# Altium footprint library Thumbstick.PcbLib: 1 footprints
Each footprint in its own frame and in the unit in brackets; x right, y up, seen from the top. Pads: shape width x height; smd on the part's side, far side on the other; paste and mask are expansions set on the pad; w line width, h text height; cw(c..) or ccw(c..) is an arc to the next point about the centre after c.
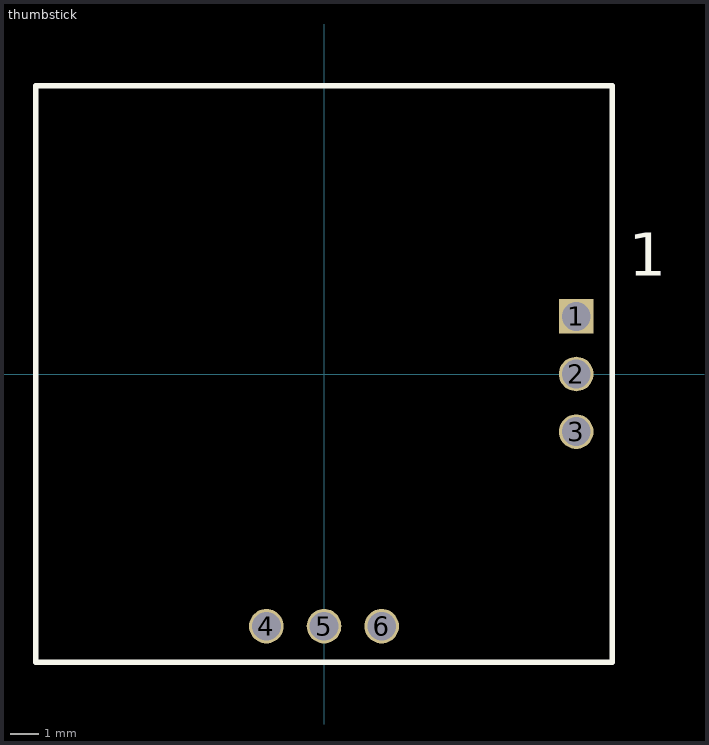
[diagram p0: the footprint, top view; thin cyan lines are the x and y axes]

## thumbstick [mm]
pads (6):
  rect 1.2x1.2 hole 1: 1(8.75,2)
  round 1.2 hole 1: 2(8.75,0) 3(8.75,-2) 4(-2,-8.75) 5(0,-8.75) 6(2,-8.75)
Top Overlay:
  lines w0.2: -10,-10 10,-10 10,10 -10,10 -10,-10
  text "1" at 10.579,3.404 h1.5
3D body "Potentiometers_Adafruit_2765_Mini_2-Axis_Analog_Thumbstick.STEP": height 12, standoff -3.1, extent -8.85,-8.975 8.85,8.975